# EAGLE library part UCC27712 (library LARS_409_MC)
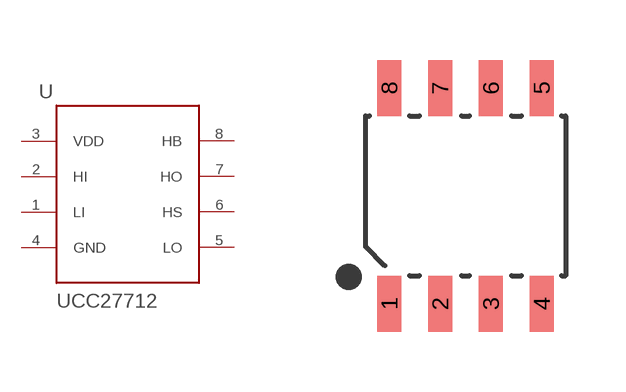
[diagram p12: symbol with the pads of SOIC-8; footprint SOIC-8]

Designator prefix U

## UCC27712  [SOIC-8]
1  LI  in
2  HI  pwr
3  VDD  out
4  GND  in
5  LO  in
6  HS  out
7  HO  pwr
8  HB  in

## Footprint SOIC-8 (pad centres in mm)
smd 0.6 x 1.4: 1 -1.905,-2.7; 2 -0.635,-2.7; 3 0.635,-2.7; 4 1.905,-2.7; 5 1.905,2.7; 6 0.635,2.7; 7 -0.635,2.7; 8 -1.905,2.7